# Altium footprint library Perforated tab.PcbLib: 1 footprints
Each footprint in its own frame and in the unit in brackets; x right, y up, seen from the top. Pads: shape width x height; smd on the part's side, far side on the other; paste and mask are expansions set on the pad; w line width, h text height; cw(c..) or ccw(c..) is an arc to the next point about the centre after c.
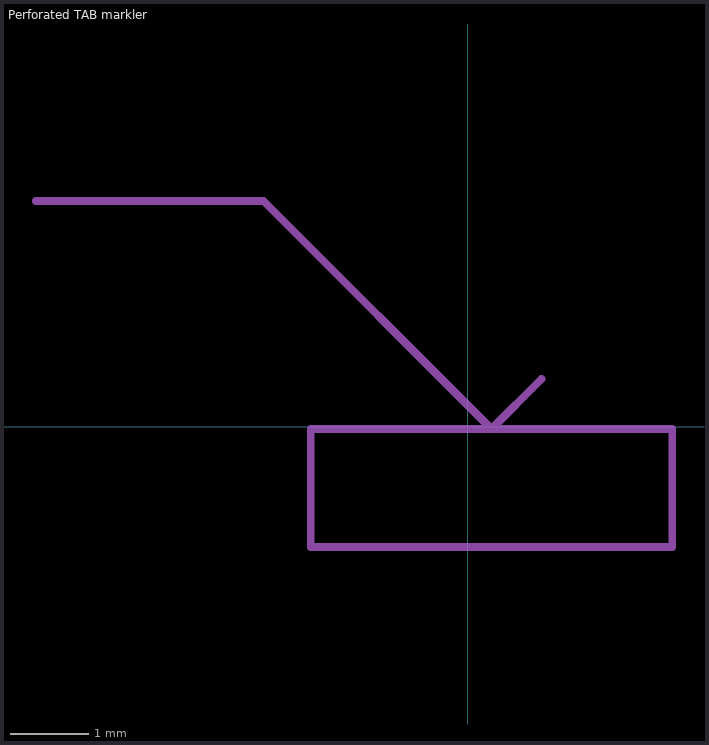
[diagram p0: the footprint, top view; thin cyan lines are the x and y axes]

## Perforated TAB markler [mm]
Mechanical 2:
  lines w0.1: -5.5,2.873 -2.6,2.873 0.3,-0.027 0.935,0.608 ; -2,-1.527 2.6,-1.527 2.6,-0.027 -2,-0.027 -2,-1.527
  text "Perforated TAB" at -8.1,3.373 h1